# Altium footprint library Transistors_ICs.PcbLib: 47 footprints (part 1 of 3)
Each footprint in its own frame and in the unit in brackets; x right, y up, seen from the top. Pads: shape width x height; smd on the part's side, far side on the other; paste and mask are expansions set on the pad; w line width, h text height; cw(c..) or ccw(c..) is an arc to the next point about the centre after c.
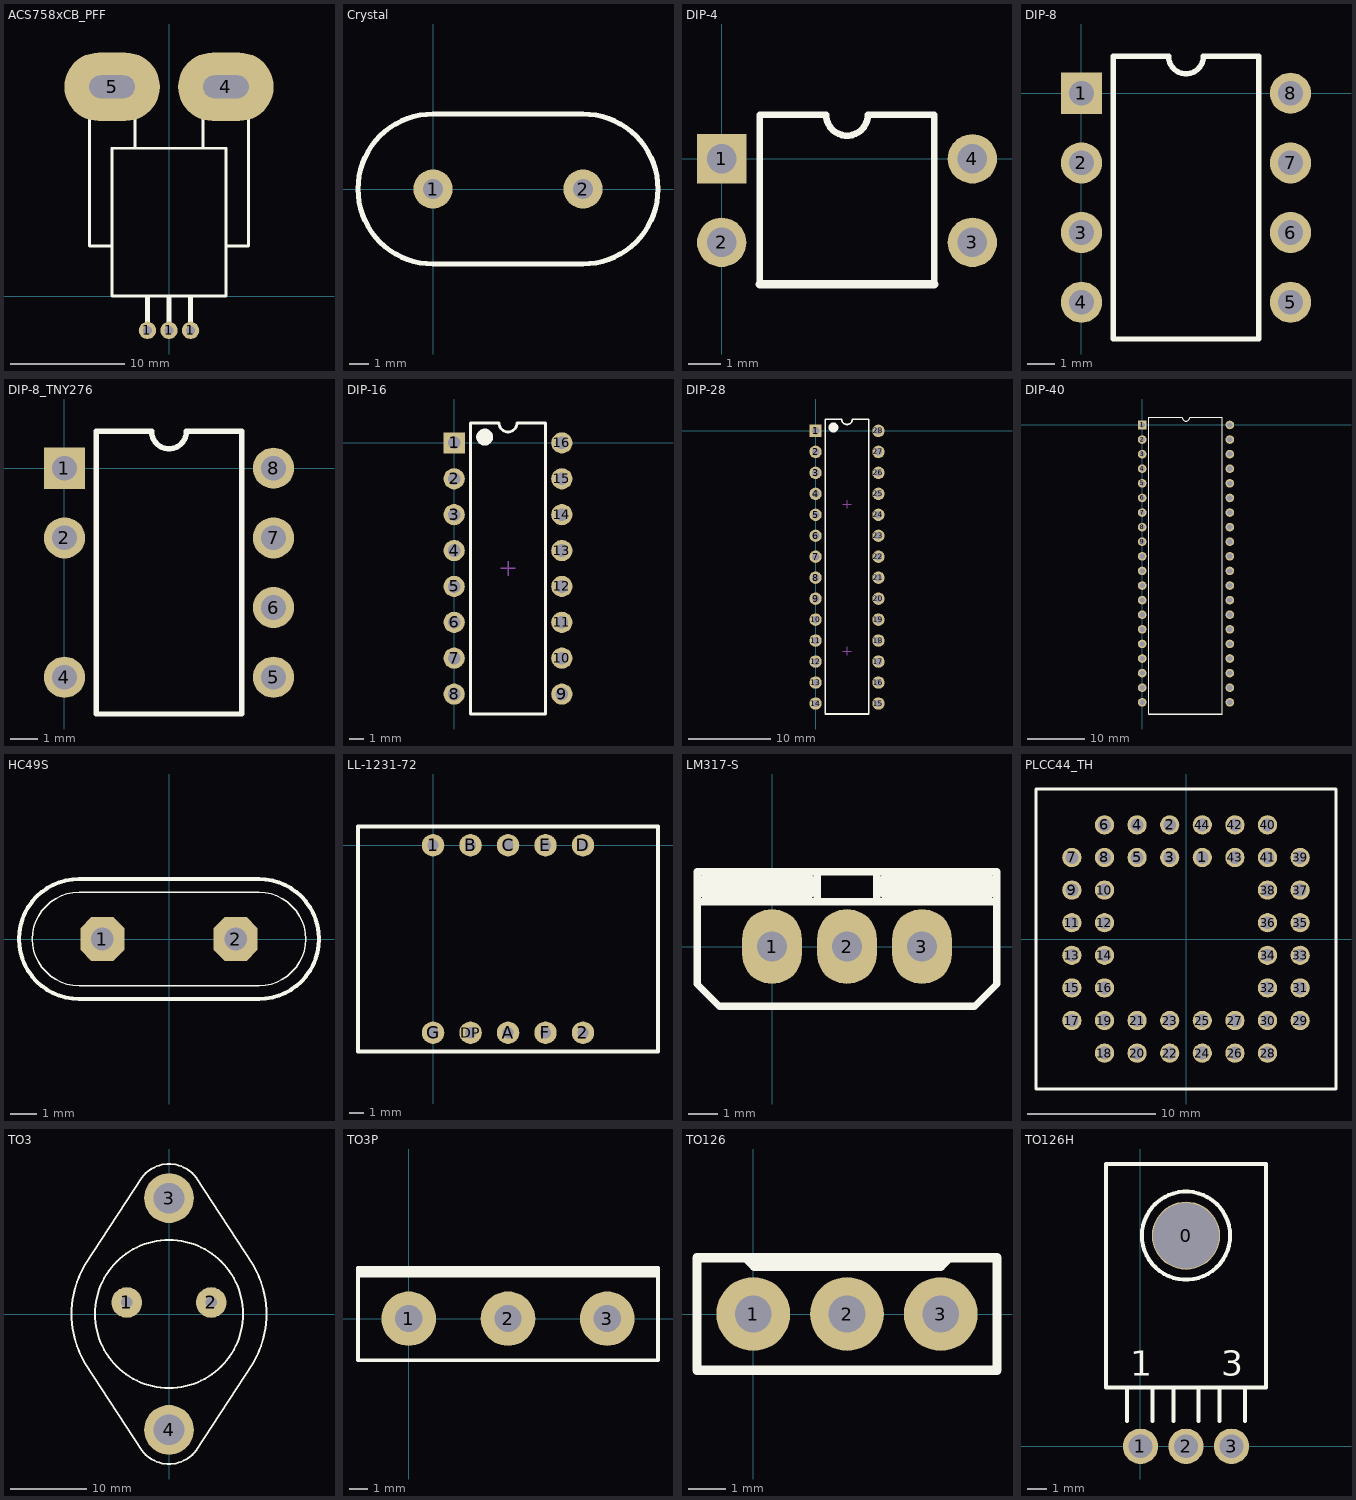
[diagram p0: the footprints below, top view; thin cyan lines are the x and y axes]

## ACS758xCB_PFF [mm]
pads (5):
  round 1.524 hole 0.8: 1(-1.9,-3) 1(0,-3) 1(1.9,-3)
  oval 8.4x6 hole 2 slot 4 at 0 deg: 4(5,18.4) 5(-5,18.4)
Top Overlay:
  lines w0.254: -5,4.4 -7,4.4 -7,19 -3,19 -3,13 ; -2,-2.5 -2,0 ; -1.8,-2.5 -1.8,0 ; -0.1,-2.5 -0.1,0 ; 0.1,-2.5 0.1,0 ; 1.8,-2.5 1.8,0 ; 2,-2.5 2,0 ; 3,13 3,19 7,19 7,4.4 5,4.4 ; -5,0 0,0 5,0 5,13 -5,13 -5,0

## Crystal [mm]
pads (2):
  round 2 hole 1: 1(0,0) 2(7.62,0)
Top Overlay:
  lines w0.254: 0,-3.81 cw(c0,0) 0,3.81 7.62,3.81 cw(c7.62,0) 7.62,-3.81 0,-3.81

## DIP-4 [mm]
pads (4):
  rect 1.5x1.5 hole 0.9: 1(0,0)
  round 1.5 hole 0.9: 2(0,-2.54) 3(7.62,-2.54) 4(7.62,0)
Top Overlay:
  lines w0.2: 1.16,-3.81 1.16,1.34 3.175,1.34 ccw(c3.81,1.34) 4.445,1.34 6.46,1.34 6.46,-3.81
  lines w0.254: 1.16,-3.81 6.46,-3.81
3D body "SW3DPS-DIP4-DEFAULT.STEP": height 4.31, standoff -3.28, extent -0.088,-3.962 7.912,1.578

## DIP-8 [mm]
pads (8):
  rect 1.5x1.5 hole 0.9: 1(0,0)
  round 1.5 hole 0.9: 2(0,-2.54) 3(0,-5.08) 4(0,-7.62) 5(7.62,-7.62) 6(7.62,-5.08) 7(7.62,-2.54) 8(7.62,0)
Top Overlay:
  lines w0.2: 1.16,-8.96 6.46,-8.96 6.46,1.34 4.445,1.34 cw(c3.81,1.34) 3.175,1.34 1.16,1.34 1.16,-8.96
3D body "P0008A.stp": height 3.75, standoff -3.83, extent -0.33,-8.496 7.874,0.775

## DIP-8_TNY276 [mm]
pads (7):
  rect 1.5x1.5 hole 0.9: 1(0,0)
  round 1.5 hole 0.9: 2(0,-2.54) 4(0,-7.62) 5(7.62,-7.62) 6(7.62,-5.08) 7(7.62,-2.54) 8(7.62,0)
Top Overlay:
  lines w0.2: 1.16,-8.96 6.46,-8.96 6.46,1.34 4.445,1.34 cw(c3.81,1.34) 3.175,1.34 1.16,1.34 1.16,-8.96

## DIP-16 [mm]
pads (16):
  rect 1.5x1.5 hole 0.9: 1(0,0)
  round 1.5 hole 0.9: 2(0,-2.54) 3(0,-5.08) 4(0,-7.62) 5(0,-10.16) 6(0,-12.7) 7(0,-15.24) 8(0,-17.78) 9(7.62,-17.78) 10(7.62,-15.24) 11(7.62,-12.7) 12(7.62,-10.16) 13(7.62,-7.62) 14(7.62,-5.08) 15(7.62,-2.54) 16(7.62,0)
Top Overlay:
  circle w0.6: c2.16,0.41 r0.3
  lines w0.2: 1.16,-19.19 1.16,1.41 3.175,1.41 ccw(c3.81,1.41) 4.445,1.41 6.46,1.41 6.46,-19.19 1.16,-19.19
Mechanical 15:
  lines w0.1: 3.31,-8.89 4.31,-8.89 ; 3.81,-9.39 3.81,-8.39
3D body "SW3dPS-DIP16-300.STEP": height 5.08, standoff -2.49, extent -0.199,-18.89 7.671,1.11

## DIP-28 [mm]
pads (28):
  rect 1.5x1.5 hole 0.9: 1(0,0)
  round 1.5 hole 0.9: 2(0,-2.54) 3(0,-5.08) 4(0,-7.62) 5(0,-10.16) 6(0,-12.7) 7(0,-15.24) 8(0,-17.78) 9(0,-20.32) 10(0,-22.86) 11(0,-25.4) 12(0,-27.94) 13(0,-30.48) 14(0,-33.02) 15(7.62,-33.02) 16(7.62,-30.48) 17(7.62,-27.94) 18(7.62,-25.4) 19(7.62,-22.86) 20(7.62,-20.32) 21(7.62,-17.78) 22(7.62,-15.24) 23(7.62,-12.7) 24(7.62,-10.16) 25(7.62,-7.62) 26(7.62,-5.08) 27(7.62,-2.54) 28(7.62,0)
Top Overlay:
  circle w0.6: c2.16,0.41 r0.3
  lines w0.2: 1.16,-34.29 6.46,-34.29 6.46,1.41 4.445,1.41 cw(c3.81,1.41) 3.175,1.41 1.16,1.41 1.16,-34.29
Mechanical 15:
  lines w0.1: 3.31,-26.67 4.31,-26.67 ; 3.31,-8.89 4.31,-8.89 ; 3.81,-27.17 3.81,-26.17 ; 3.81,-9.39 3.81,-8.39
3D body "SW3dPS-DIP28-300.STEP": height 5.08, standoff -2.49, extent -0.047,-34.51 7.823,1.49

## DIP-40 [mm]
pads (40):
  rect 1.5x1.5 hole 0.9: 1(0,0)
  round 1.5 hole 0.9: 2(0,-2.54) 3(0,-5.08) 4(0,-7.62) 5(0,-10.16) 6(0,-12.7) 7(0,-15.24) 8(0,-17.78) 9(0,-20.32) 10(0,-22.86) 11(0,-25.4) 12(0,-27.94) 13(0,-30.48) 14(0,-33.02) 15(0,-35.56) 16(0,-38.1) 17(0,-40.64) 18(0,-43.18) 19(0,-45.72) 20(0,-48.26) 21(15.24,-48.26) 22(15.24,-45.72) 23(15.24,-43.18) 24(15.24,-40.64) 25(15.24,-38.1) 26(15.24,-35.56) 27(15.24,-33.02) 28(15.24,-30.48) 29(15.24,-27.94) 30(15.24,-25.4) 31(15.24,-22.86) 32(15.24,-20.32) 33(15.24,-17.78) 34(15.24,-15.24) 35(15.24,-12.7) 36(15.24,-10.16) 37(15.24,-7.62) 38(15.24,-5.08) 39(15.24,-2.54) 40(15.24,0)
Top Overlay:
  lines w0.2: 1.16,-50.292 1.16,1.34 6.985,1.34 ; 6.985,1.27 ccw(c7.62,1.27) 8.255,1.27 ; 8.255,1.34 13.97,1.34 13.97,-50.292
  lines w0.254: 1.16,-50.292 13.97,-50.292
3D body "SW3dPS-DIP40-600.STEP": height 5.7, standoff -2.58, extent -0.047,-50.025 15.443,2.425

## HC49S [mil] "Quartz Crystal  PTH HC49S"
pads (2):
  oct 66x66 hole 34: 1(-100,0) 2(100,0)
Top Overlay:
  lines w2: -135,-70 cw(c-135,0) -135,70 135,70 cw(c135,0) 135,-70 -135,-70
  lines w6: -135,-90 cw(c-135,0) -135,90 135,90 cw(c135,0) 135,-90 -135,-90
3D body "User Library-Crystal-HC49S-1.STEP": height 141.73, standoff -118.11, extent -216.14,-88.41 216.14,88.41

## LL-1231-72 [mil]
pads (10):
  round 60 hole 30: 1(0,0) 2(400,-500) A(200,-500) B(100,0) C(200,0) D(400,0) DP(100,-500) E(300,0) F(300,-500) G(0,-500)
Top Overlay:
  lines w10: -200,-550 600,-550 600,50 -200,50 -200,-550

## LM317-S [mil]
pads (3):
  oval 80x100 hole 40: 1(0,0) 2(100,0) 3(200,0)
Top Overlay:
  lines w10: -100,60 300,60 ; 60,60 60,100 ; 140,60 140,100 ; -100,-50 -70,-80 270,-80 300,-50 300,100 -100,100 -100,0 -100,-50
  lines w40: -80,80 40,80 ; 160,80 280,80

## PLCC44_TH [mm] "Chip Carrier Socket, PC44, Through Hole"
pads (44):
  round 1.5 hole 1: 1(1.27,6.35) 2(-1.27,8.89) 3(-1.27,6.35) 4(-3.81,8.89) 5(-3.81,6.35) 6(-6.35,8.89) 7(-8.89,6.35) 8(-6.35,6.35) 9(-8.89,3.81) 10(-6.35,3.81) 11(-8.89,1.27) 12(-6.35,1.27) 13(-8.89,-1.27) 14(-6.35,-1.27) 15(-8.89,-3.81) 16(-6.35,-3.81) 17(-8.89,-6.35) 18(-6.35,-8.89) 19(-6.35,-6.35) 20(-3.81,-8.89) 21(-3.81,-6.35) 22(-1.27,-8.89) 23(-1.27,-6.35) 24(1.27,-8.89) 25(1.27,-6.35) 26(3.81,-8.89) 27(3.81,-6.35) 28(6.35,-8.89) 29(8.89,-6.35) 30(6.35,-6.35) 31(8.89,-3.81) 32(6.35,-3.81) 33(8.89,-1.27) 34(6.35,-1.27) 35(8.89,1.27) 36(6.35,1.27) 37(8.89,3.81) 38(6.35,3.81) 39(8.89,6.35) 40(6.35,8.89) 41(6.35,6.35) 42(3.81,8.89) 43(3.81,6.35) 44(1.27,8.89)
Top Overlay:
  lines w0.2: -11.684,-11.684 -11.684,11.684 11.684,11.684 11.684,-11.684 -11.684,-11.684
3D body "8444-11B1-RK-TP.stp": height 8.1, standoff -5, extent -11.75,-11.717 11.75,11.783

## TO3 [mm]
pads (4):
  round 4 hole 1.5: 1(-5.5,1.5) 2(5.5,1.5)
  round 6.5 hole 4: 3(0,15.113) 4(0,-15.113)
Top Overlay:
  circle w0.254: c0,0 r9.652
  lines w0.254: -10.924,-6.478 cw(c0,0) -10.924,6.478 ; -10.922,-6.477 -3.556,-17.78 ccw(c0,-15.113) 3.556,-17.78 10.922,-6.477 ccw(c-0.002,0.001) 10.922,6.479 ; -10.922,6.477 -3.556,17.78 cw(c0,15.113) 3.556,17.78 10.922,6.477

## TO3P [mm]
pads (3):
  round 3 hole 1.5: 1(0,0) 2(5.461,0) 3(10.922,0)
Top Overlay:
  lines w0.2: -2.794,2.371 13.716,2.371 ; -2.794,2.455 13.716,2.455 ; -2.794,2.54 13.716,2.54 ; -2.794,2.667 13.716,2.667 ; -2.794,-2.286 13.716,-2.286 13.716,2.794 -2.794,2.794 -2.794,-2.286

## TO126 [mm]
pads (3):
  round 2 hole 1: 1(0,0) 2(2.54,0) 3(5.08,0)
Top Overlay:
  lines w0.254: -0.203,1.524 0.025,1.295 5.08,1.295 5.309,1.524 ; -1.524,-1.524 -1.524,1.524 6.604,1.524 6.604,-1.524 -1.524,-1.524

## TO126H [mil]
pads (4):
  round 135 hole 130: 0(90,416.67)
  round 70 hole 47.24: 1(0,0) 2(90,0) 3(180,0)
Top Overlay:
  circle w7.87: c90,416.67 r87.19
  lines w7.87: -26.67,50 -26.67,116.67 ; 23.33,50 23.33,116.67 ; 65,50 65,116.67 ; 115,50 115,116.67 ; 156.67,50 156.67,116.67 ; 206.67,50 206.67,116.67 ; -26.67,116.67 -68.33,116.67 -68.33,558.33 248.33,558.33 248.33,116.67 -26.67,116.67
  text "3" at 160,140 h50
  text "1" at -20,140 h50